# EAGLE library part NHD_LCD_C0220BIZ (library Controller)
This is the device for the NHD‐C0220BiZ‐FSW‐FBW‐3V3M COG (Chip‐On‐Glass) Character Liquid Crystal Display Module. Datasheet: http://www.newhavendisplay.com/specs/NHD-C0220BiZ-FSW-FBW-3V3M.pdf Author: Dustin Richmond Created: 10/25/2014
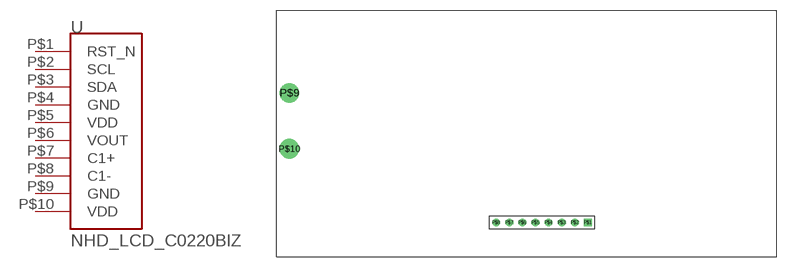
[diagram p9: symbol with the pads of 1X08-2MMPTH-LCD; footprint 1X08-2MMPTH-LCD]

Designator prefix -

## NHD_LCD_C0220BIZ  [1X08-2MMPTH-LCD]
P$1  RST_N
P$2  SCL
P$3  SDA
P$4  GND
P$5  VDD
P$6  VOUT
P$7  C1+
P$8  C1-
P$9  GND
P$10  VDD

## Footprint 1X08-2MMPTH-LCD (pad centres in mm)
This is the footprint for the NHD‐C0220BiZ‐FSW‐FBW‐3V3M COG (Chip‐On‐Glass) Character Liquid Crystal Display Module. The tPlacebox is not a tight fit to the display, but instead encompasses all little bits and pieces that hang off. Datasheet: http://www.newhavendisplay.com/specs/NHD-C0220BiZ-FSW-FBW-3V3M.pdf Author: Dustin Richmond Created: 10/25/2014
drill 0.7 square: P$1 7,0
drill 0.7: P$2 5,0; P$3 3,0; P$4 1,0; P$5 -1,0; P$6 -3,0; P$7 -5,0; P$8 -7,0
drill 2: P$9 -38.55,19.75; P$10 -38.55,11.25